# Altium footprint library Avago Technologies Footprints.PcbLib: 71 footprints (part 3 of 5)
Each footprint in its own frame and in the unit in brackets; x right, y up, seen from the top. Pads: shape width x height; smd on the part's side, far side on the other; paste and mask are expansions set on the pad; w line width, h text height; cw(c..) or ccw(c..) is an arc to the next point about the centre after c.
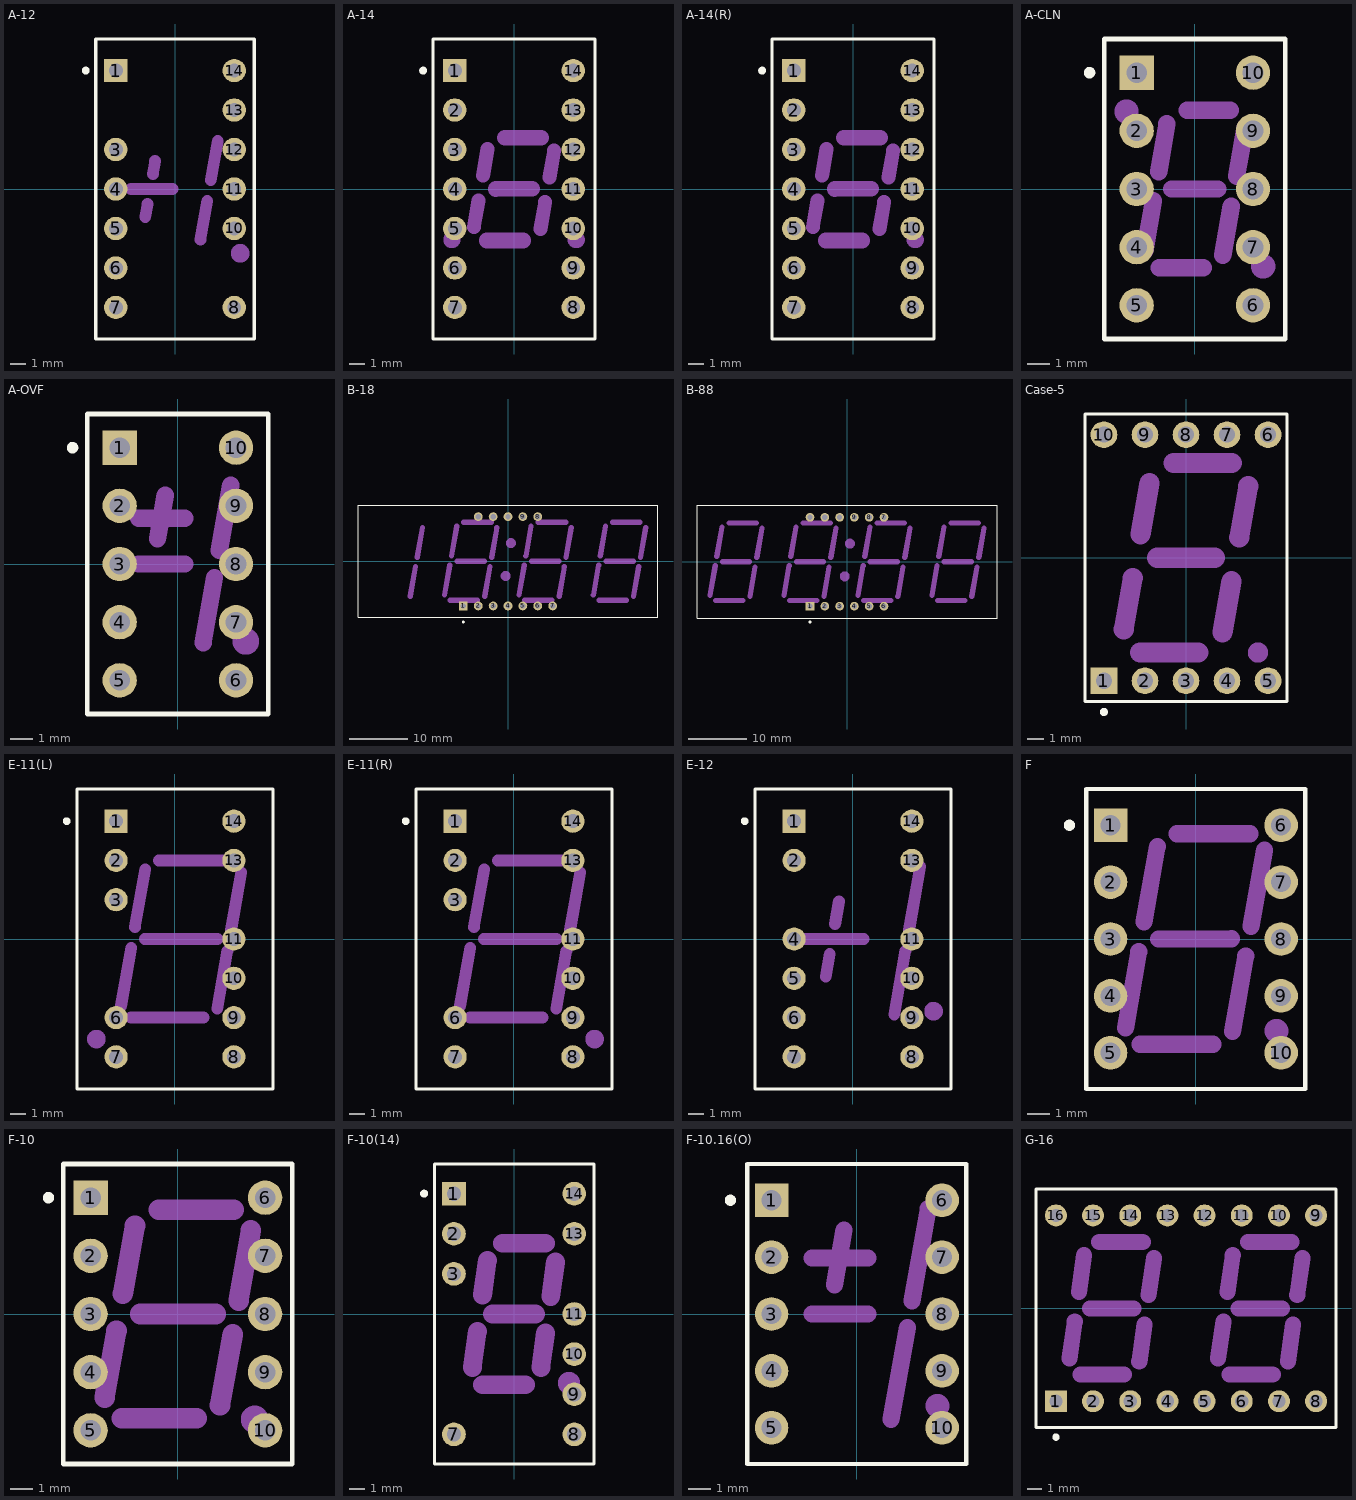
[diagram p2: the footprints below, top view; thin cyan lines are the x and y axes]

## A-12 [mm] "LED, Universal ±1 Overflow, 7.62 mm, RHD; 14 Leads (2 Absent); Row Space 7.62 mm; Pitch 2.54 mm"
height 6.35
pads (12):
  rect 1.5x1.5 hole 0.9: 1(-3.81,7.62)
  round 1.5 hole 0.9: 3(-3.81,2.54) 4(-3.81,0) 5(-3.81,-2.54) 6(-3.81,-5.08) 7(-3.81,-7.62) 8(3.81,-7.62) 10(3.81,-2.54) 11(3.81,0) 12(3.81,2.54) 13(3.81,5.08) 14(3.81,7.62)
Top Overlay:
  circle w0.25: c-5.75,7.62 r0.125
  lines w0.2: -5.1,-9.65 5.1,-9.65 5.1,9.65 -5.1,9.65 -5.1,-9.65
Mechanical 1:
  circle w0.86: c4.19,-4.139 r0.17
  lines w0.762: -2.83,0 -0.17,0 ; -1.911,-1.799 -1.764,-0.962 ; -1.427,0.961 -1.28,1.8 ; 1.63,-3.262 2.071,-0.764 ; 2.303,0.565 2.747,3.084

## A-14 [mm] "LED, 7-Segment Display, 7.62 mm, LHD; 14 Leads; Row Space 7.62 mm; Pitch 2.54 mm"
height 6.35
pads (14):
  rect 1.5x1.5 hole 0.9: 1(-3.81,7.62)
  round 1.5 hole 0.9: 2(-3.81,5.08) 3(-3.81,2.54) 4(-3.81,0) 5(-3.81,-2.54) 6(-3.81,-5.08) 7(-3.81,-7.62) 8(3.81,-7.62) 9(3.81,-5.08) 10(3.81,-2.54) 11(3.81,0) 12(3.81,2.54) 13(3.81,5.08) 14(3.81,7.62)
Top Overlay:
  circle w0.25: c-5.85,7.62 r0.125
  lines w0.2: -5.2,-9.65 -5.2,9.65 5.2,9.65 5.2,-9.65 -5.2,-9.65
Mechanical 1:
  circle w0.85: c-4,-3.26 r0.126
  circle w0.85: c4,-3.26 r0.126
  lines w0.9: -2.585,-2.458 -2.284,-0.752 ; -2.003,0.855 -1.699,2.559 ; 1.698,-2.559 2.002,-0.835 ; 2.28,0.751 2.582,2.47
  lines w1: -1.769,-3.312 0.598,-3.312 ; -1.183,0 1.179,0.004 ; -0.601,3.309 1.766,3.311

## A-14(R) [mm] "LED, 7-Segment Display, 7.62 mm, RHD; 14 Leads; Row Space 7.62 mm; Pitch 2.54 mm"
height 6.35
pads (14):
  rect 1.5x1.5 hole 0.9: 1(-3.81,7.62)
  round 1.5 hole 0.9: 2(-3.81,5.08) 3(-3.81,2.54) 4(-3.81,0) 5(-3.81,-2.54) 6(-3.81,-5.08) 7(-3.81,-7.62) 8(3.81,-7.62) 9(3.81,-5.08) 10(3.81,-2.54) 11(3.81,0) 12(3.81,2.54) 13(3.81,5.08) 14(3.81,7.62)
Top Overlay:
  circle w0.25: c-5.85,7.62 r0.125
  lines w0.2: -5.2,-9.65 -5.2,9.65 5.2,9.65 5.2,-9.65 -5.2,-9.65
Mechanical 1:
  circle w0.85: c4,-3.26 r0.126
  lines w0.9: -2.585,-2.458 -2.284,-0.752 ; -2.003,0.855 -1.699,2.559 ; 1.698,-2.559 2.002,-0.835 ; 2.28,0.751 2.582,2.47
  lines w1: -1.769,-3.312 0.598,-3.312 ; -1.183,0 1.179,0.004 ; -0.601,3.309 1.766,3.311

## A-CLN [mm] "LED, 7-Segment Display, 7.62 mm, RHD, Colon; 10 Leads; Row Space 5.08 mm; Pitch 2.54 mm"
height 6.34
pads (10):
  rect 1.5x1.5 hole 0.9: 1(-2.54,5.08)
  round 1.5 hole 0.9: 2(-2.54,2.54) 3(-2.54,0) 4(-2.54,-2.54) 5(-2.54,-5.08) 6(2.54,-5.08) 7(2.54,-2.54) 8(2.54,0) 9(2.54,2.54) 10(2.54,5.08)
Top Overlay:
  circle w0.25: c-4.6,5.08 r0.125
  lines w0.2: -3.95,-6.55 3.95,-6.55 3.95,6.55 -3.95,6.55 -3.95,-6.55
Mechanical 1:
  circle w0.86: c2.985,-3.38 r0.1
  circle w0.86: c-2.985,3.38 r0.1
  lines w0.762: -2.19,-2.69 -1.81,-0.52 ; -1.58,0.76 -1.22,2.84 ; -1.56,-3.43 0.36,-3.43 ; -1.004,0 1.004,0 ; -0.34,3.43 1.55,3.43 ; 1.22,-2.89 1.59,-0.76 ; 1.82,0.56 2.2,2.69

## A-OVF [mm] "LED, Universal ±1 Overflow, 7.62 mm, RHD; 10 Leads; Row Space 5.08 mm; Pitch 2.54 mm"
height 6.34
pads (10):
  rect 1.5x1.5 hole 0.9: 1(-2.54,5.08)
  round 1.5 hole 0.9: 2(-2.54,2.54) 3(-2.54,0) 4(-2.54,-2.54) 5(-2.54,-5.08) 6(2.54,-5.08) 7(2.54,-2.54) 8(2.54,0) 9(2.54,2.54) 10(2.54,5.08)
Top Overlay:
  circle w0.25: c-4.6,5.08 r0.125
  lines w0.2: -3.95,-6.55 -3.95,6.55 3.95,6.55 3.95,-6.55 -3.95,-6.55
Mechanical 1:
  circle w0.86: c2.97,-3.38 r0.15
  lines w0.762: -1.7,0 0.3,0 ; -1.7,2 0.3,2 ; -0.89,1.1 -0.55,3.01 ; 1.1,-3.43 1.6,-0.59 ; 1.81,0.59 2.31,3.43

## B-18 [mm] "LED, 7-Segment Display, 14.22 mm, Four Digit, 18:88; 12 Leads; Row Space 15.24 mm; Pitch 2.54 mm"
height 8.26
pads (12):
  rect 1.5x1.5 hole 0.9: 1(-7.62,-7.62)
  round 1.5 hole 0.9: 2(-5.08,-7.62) 3(-2.54,-7.62) 4(0,-7.62) 5(2.54,-7.62) 6(5.08,-7.62) 7(7.62,-7.62) 8(5.08,7.62) 9(2.54,7.62) 10(0,7.62) 11(-2.54,7.62) 12(-5.08,7.62)
Top Overlay:
  circle w0.25: c-7.62,-10.35 r0.125
  lines w0.2: -25.6,-9.55 -25.6,9.55 25.6,9.55 25.6,-9.55 -25.6,-9.55
Mechanical 1:
  circle w1.4: c0.505,3.1 r0.15
  circle w1.4: c-0.395,-2.5 r0.15
  lines w0.9: -16.67,-5.95 -15.78,-0.9 ; -15.49,0.71 -14.6,5.76 ; -10.83,-5.76 -9.93,-0.69 ; -9.87,-6.66 -5.2,-6.67 ; -9.65,0.9 -8.76,5.96 ; -8.69,0 -4.03,0 ; -7.53,6.66 -2.86,6.66 ; -3.97,-5.95 -3.08,-0.9 ; -2.79,0.71 -1.9,5.76 ; 1.87,-5.76 2.77,-0.69 ; 2.83,-6.66 7.5,-6.67 ; 3.05,0.9 3.94,5.96 ; 4.01,0 8.67,0 ; 5.17,6.66 9.84,6.66 ; 8.73,-5.95 9.62,-0.9 ; 9.91,0.71 10.8,5.76 ; 14.57,-5.76 15.47,-0.69 ; 15.53,-6.66 20.2,-6.67 ; 15.75,0.9 16.64,5.96 ; 16.71,0 21.37,0 ; 17.87,6.66 22.54,6.66 ; 21.43,-5.95 22.32,-0.9 ; 22.61,0.71 23.5,5.76

## B-88 [mm] "LED, 7-Segment Display, 14.22 mm, Four Digit, 88:88; 12 Leads; Row Space 15.24 mm; Pitch 2.54 mm"
height 8.26
pads (12):
  rect 1.5x1.5 hole 0.9: 1(-6.35,-7.62)
  round 1.5 hole 0.9: 2(-3.81,-7.62) 3(-1.27,-7.62) 4(1.27,-7.62) 5(3.81,-7.62) 6(6.35,-7.62) 7(6.35,7.62) 8(3.81,7.62) 9(1.27,7.62) 10(-1.27,7.62) 11(-3.81,7.62) 12(-6.35,7.62)
Top Overlay:
  circle w0.25: c-6.35,-10.35 r0.125
  lines w0.2: -25.75,-9.7 25.75,-9.7 25.75,9.7 -25.75,9.7 -25.75,-9.7
Mechanical 1:
  circle w1.4: c-0.395,-2.5 r0.15
  circle w1.4: c0.505,3.1 r0.15
  lines w0.9: -23.53,-5.76 -22.63,-0.69 ; -22.57,-6.66 -17.9,-6.67 ; -22.35,0.9 -21.46,5.96 ; -21.39,0 -16.73,0 ; -20.23,6.66 -15.56,6.66 ; -16.67,-5.95 -15.78,-0.9 ; -15.49,0.71 -14.6,5.76 ; -10.83,-5.76 -9.93,-0.69 ; -9.87,-6.66 -5.2,-6.67 ; -9.65,0.9 -8.76,5.96 ; -8.69,0 -4.03,0 ; -7.53,6.66 -2.86,6.66 ; -3.97,-5.95 -3.08,-0.9 ; -2.79,0.71 -1.9,5.76 ; 1.87,-5.76 2.77,-0.69 ; 2.83,-6.66 7.5,-6.67 ; 3.05,0.9 3.94,5.96 ; 4.01,0 8.67,0 ; 5.17,6.66 9.84,6.66 ; 8.73,-5.95 9.62,-0.9 ; 9.91,0.71 10.8,5.76 ; 14.57,-5.76 15.47,-0.69 ; 15.53,-6.66 20.2,-6.67 ; 15.75,0.9 16.64,5.96 ; 16.71,0 21.37,0 ; 17.87,6.66 22.54,6.66 ; 21.43,-5.95 22.32,-0.9 ; 22.61,0.71 23.5,5.76

## Case-5 [mm] "LED, 7-Segment Display, 13 mm, RHD; 10 Leads; Row Space 15.24 mm; Pitch 2.54 mm"
height 7.25
pads (10):
  rect 1.65x1.65 hole 1: 1(-5.08,-7.62)
  round 1.65 hole 1: 2(-2.54,-7.62) 3(0,-7.62) 4(2.54,-7.62) 5(5.08,-7.62) 6(5.08,7.62) 7(2.54,7.62) 8(0,7.62) 9(-2.54,7.62) 10(-5.08,7.62)
Top Overlay:
  circle w0.25: c-5.08,-9.55 r0.125
  lines w0.2: -6.25,-8.9 -6.25,8.9 6.25,8.9 6.25,-8.9 -6.25,-8.9
Mechanical 1:
  circle w0.85: c4.455,-5.872 r0.2
  lines w1.25: -3.857,-4.427 -3.295,-1.251 ; -2.84,-5.875 0.756,-5.875 ; -2.818,1.449 -2.257,4.627 ; -1.802,0 1.802,0 ; -0.767,5.875 2.837,5.875 ; 2.26,-4.624 2.818,-1.45 ; 3.295,1.25 3.854,4.424

## E-11(L) [mm] "LED, 7-Segment Display, 10.92 mm, LHD; 14 Leads (3 Absent); Row Space 7.62 mm; Pitch 2.54 mm"
height 8.13
pads (11):
  rect 1.5x1.5 hole 0.9: 1(-3.81,7.62)
  round 1.5 hole 0.9: 2(-3.81,5.08) 3(-3.81,2.54) 6(-3.81,-5.08) 7(-3.81,-7.62) 8(3.81,-7.62) 9(3.81,-5.08) 10(3.81,-2.54) 11(3.81,0) 13(3.81,5.08) 14(3.81,7.62)
Top Overlay:
  circle w0.25: c-7,7.62 r0.125
  lines w0.2: -6.35,-9.7 6.35,-9.7 6.35,9.7 -6.35,9.7 -6.35,-9.7
Mechanical 1:
  circle w0.86: c-5.08,-6.47 r0.17
  lines w0.762: -3.488,-4.33 -2.824,-0.566 ; -2.843,-5.079 1.852,-5.079 ; -2.592,0.764 -1.928,4.516 ; -1.949,0 2.746,0 ; -1.053,5.079 3.643,5.079 ; 2.728,-4.511 3.39,-0.763 ; 3.619,0.556 4.284,4.316

## E-11(R) [mm] "LED, 7-Segment Display, 10.92 mm, RHD; 14 Leads (3 Absent); Row Space 7.62 mm; Pitch 2.54 mm"
height 8.13
pads (11):
  rect 1.5x1.5 hole 0.9: 1(-3.81,7.62)
  round 1.5 hole 0.9: 2(-3.81,5.08) 3(-3.81,2.54) 6(-3.81,-5.08) 7(-3.81,-7.62) 8(3.81,-7.62) 9(3.81,-5.08) 10(3.81,-2.54) 11(3.81,0) 13(3.81,5.08) 14(3.81,7.62)
Top Overlay:
  circle w0.25: c-7,7.62 r0.125
  lines w0.2: -6.35,-9.7 -6.35,9.7 6.35,9.7 6.35,-9.7 -6.35,-9.7
Mechanical 1:
  circle w0.86: c5.21,-6.47 r0.17
  lines w0.762: -3.488,-4.33 -2.824,-0.566 ; -2.843,-5.079 1.852,-5.079 ; -2.592,0.764 -1.928,4.516 ; -1.949,0 2.746,0 ; -1.053,5.079 3.643,5.079 ; 2.728,-4.511 3.39,-0.763 ; 3.619,0.556 4.284,4.316

## E-12 [mm] "LED, Universal ±1 Overflow, 10.92 mm, RHD; 14 Leads (2 Absent); Row Space 7.62 mm; Pitch 2.54 mm"
height 8.13
pads (12):
  rect 1.5x1.5 hole 0.9: 1(-3.81,7.62)
  round 1.5 hole 0.9: 2(-3.81,5.08) 4(-3.81,0) 5(-3.81,-2.54) 6(-3.81,-5.08) 7(-3.81,-7.62) 8(3.81,-7.62) 9(3.81,-5.08) 10(3.81,-2.54) 11(3.81,0) 13(3.81,5.08) 14(3.81,7.62)
Top Overlay:
  circle w0.25: c-7,7.62 r0.125
  lines w0.2: -6.35,-9.7 6.35,-9.7 6.35,9.7 -6.35,9.7 -6.35,-9.7
Mechanical 1:
  circle w0.86: c5.21,-4.67 r0.17
  lines w0.762: -3.395,0 0.7,0 ; -1.764,-2.435 -1.506,-0.963 ; -1.167,0.961 -0.908,2.436 ; 2.661,-4.885 3.39,-0.763 ; 3.619,0.556 4.351,4.692

## F [mm] "LED, 7-Segment Display, 10.16 mm, RHD; 10 Leads; Row Space 7.62 mm; Pitch 2.54 mm"
height 6.34
pads (10):
  rect 1.5x1.5 hole 0.9: 1(-3.81,5.08)
  round 1.5 hole 0.9: 2(-3.81,2.54) 3(-3.81,0) 4(-3.81,-2.54) 5(-3.81,-5.08) 6(3.81,5.08) 7(3.81,2.54) 8(3.81,0) 9(3.81,-2.54) 10(3.81,-5.08)
Top Overlay:
  circle w0.25: c-5.65,5.08 r0.125
  lines w0.2: -4.895,-6.7 4.895,-6.7 4.895,6.7 -4.895,6.7 -4.895,-6.7
Mechanical 1:
  circle w0.86: c3.6,-4.1 r0.1
  lines w0.762: -3.14,-3.98 -2.55,-0.57 ; -2.5,-4.7 0.77,-4.7 ; -2.31,0.77 -1.72,4.13 ; -1.67,0 1.6,0.01 ; -0.84,4.7 2.42,4.7 ; 1.64,-4.13 2.23,-0.75 ; 2.47,0.57 3.07,3.97

## F-10 [mm] "LED, 7-Segment Display, 10 mm, RHD; 10 Leads; Row Space 7.62 mm; Pitch 2.54 mm"
height 7.25
pads (10):
  rect 1.5x1.5 hole 0.9: 1(-3.81,5.08)
  round 1.5 hole 0.9: 2(-3.81,2.54) 3(-3.81,0) 4(-3.81,-2.54) 5(-3.81,-5.08) 6(3.81,5.08) 7(3.81,2.54) 8(3.81,0) 9(3.81,-2.54) 10(3.81,-5.08)
Top Overlay:
  circle w0.25: c-5.65,5.08 r0.125
  lines w0.2: -5,-6.55 5,-6.55 5,6.55 -5,6.55 -5,-6.55
Mechanical 1:
  circle w0.86: c3.35,-4.6 r0.17
  lines w0.9: -3.2,-3.65 -2.68,-0.73 ; -2.44,-4.55 0.83,-4.55 ; -2.4,0.89 -1.87,3.86 ; -1.65,0 1.65,0 ; -0.83,4.55 2.44,4.55 ; 1.84,-3.98 2.39,-0.89 ; 2.65,0.58 3.19,3.66

## F-10(14) [mm] "LED, 7-Segment Display, 10.16 mm, RHD; 14 Leads (4 Absent); Row Space 7.62 mm; Pitch 2.54 mm"
height 5.36
pads (10):
  rect 1.5x1.5 hole 0.9: 1(-3.81,7.62)
  round 1.5 hole 0.9: 2(-3.81,5.08) 3(-3.81,2.54) 7(-3.81,-7.62) 8(3.81,-7.62) 9(3.81,-5.08) 10(3.81,-2.54) 11(3.81,0) 13(3.81,5.08) 14(3.81,7.62)
Top Overlay:
  circle w0.25: c-5.7,7.62 r0.125
  lines w0.2: -5.05,-9.5 5.05,-9.5 5.05,9.5 -5.05,9.5 -5.05,-9.5
Mechanical 1:
  circle w1: c3.47,-4.373 r0.2
  lines w1.2: -2.647,-3.381 -2.328,-1.099 ; -2.002,1.2 -1.696,3.38 ; -1.992,-4.48 0.733,-4.48 ; -1.361,0 1.361,0 ; -0.731,4.48 1.993,4.48 ; 1.69,-3.38 1.99,-1.2 ; 2.32,1.1 2.62,3.28

## F-10.16(O) [mm] "LED, Universal ±1 Overflow, 10.16 mm, RHD; 10 Leads; Row Space 7.62 mm; Pitch 2.54 mm"
height 6.34
pads (10):
  rect 1.5x1.5 hole 0.9: 1(-3.81,5.08)
  round 1.5 hole 0.9: 2(-3.81,2.54) 3(-3.81,0) 4(-3.81,-2.54) 5(-3.81,-5.08) 6(3.81,5.08) 7(3.81,2.54) 8(3.81,0) 9(3.81,-2.54) 10(3.81,-5.08)
Top Overlay:
  circle w0.25: c-5.65,5.08 r0.125
  lines w0.2: -4.895,-6.7 -4.895,6.7 4.895,6.7 4.895,-6.7 -4.895,-6.7
Mechanical 1:
  circle w0.86: c3.6,-4.1 r0.1
  lines w0.762: -2,0 0.5,0 ; -2,2.5 0.5,2.5 ; -1,1.3 -0.57,3.76 ; 1.53,-4.7 2.26,-0.6 ; 2.46,0.59 3.19,4.7

## G-16 [mm] "LED, 7-Segment Display, 10.16 mm, Dual Digit; 16 Leads; Row Space 12.7 mm; Pitch 2.54 mm"
height 7.16
pads (16):
  rect 1.5x1.5 hole 0.9: 1(16.51,-6.35)
  round 1.5 hole 0.9: 2(19.05,-6.35) 3(21.59,-6.35) 4(24.13,-6.35) 5(26.67,-6.35) 6(29.21,-6.35) 7(31.75,-6.35) 8(34.29,-6.35) 9(34.29,6.35) 10(31.75,6.35) 11(29.21,6.35) 12(26.67,6.35) 13(24.13,6.35) 14(21.59,6.35) 15(19.05,6.35) 16(16.51,6.35)
Top Overlay:
  circle w0.25: c16.51,-8.8 r0.125
  lines w0.2: 15.15,-8.15 35.65,-8.15 35.65,8.15 15.15,8.15 15.15,-8.15
Mechanical 1:
  lines w1.1: 17.44,-3.432 17.797,-0.898 ; 18.077,1.104 18.433,3.628 ; 18.199,-4.53 21.169,-4.53 ; 18.834,0 21.806,0 ; 19.475,4.53 22.443,4.53 ; 22.208,-3.63 22.563,-1.102 ; 22.844,0.904 23.202,3.432 ; 27.6,-3.432 27.957,-0.898 ; 28.237,1.104 28.593,3.628 ; 28.359,-4.53 31.329,-4.53 ; 28.994,0 31.966,0 ; 29.635,4.53 32.603,4.53 ; 32.368,-3.63 32.723,-1.102 ; 33.004,0.904 33.362,3.432